# Altium footprint library final.PcbLib: 69 footprints (part 2 of 5)
Each footprint in its own frame and in the unit in brackets; x right, y up, seen from the top. Pads: shape width x height; smd on the part's side, far side on the other; paste and mask are expansions set on the pad; w line width, h text height; cw(c..) or ccw(c..) is an arc to the next point about the centre after c.
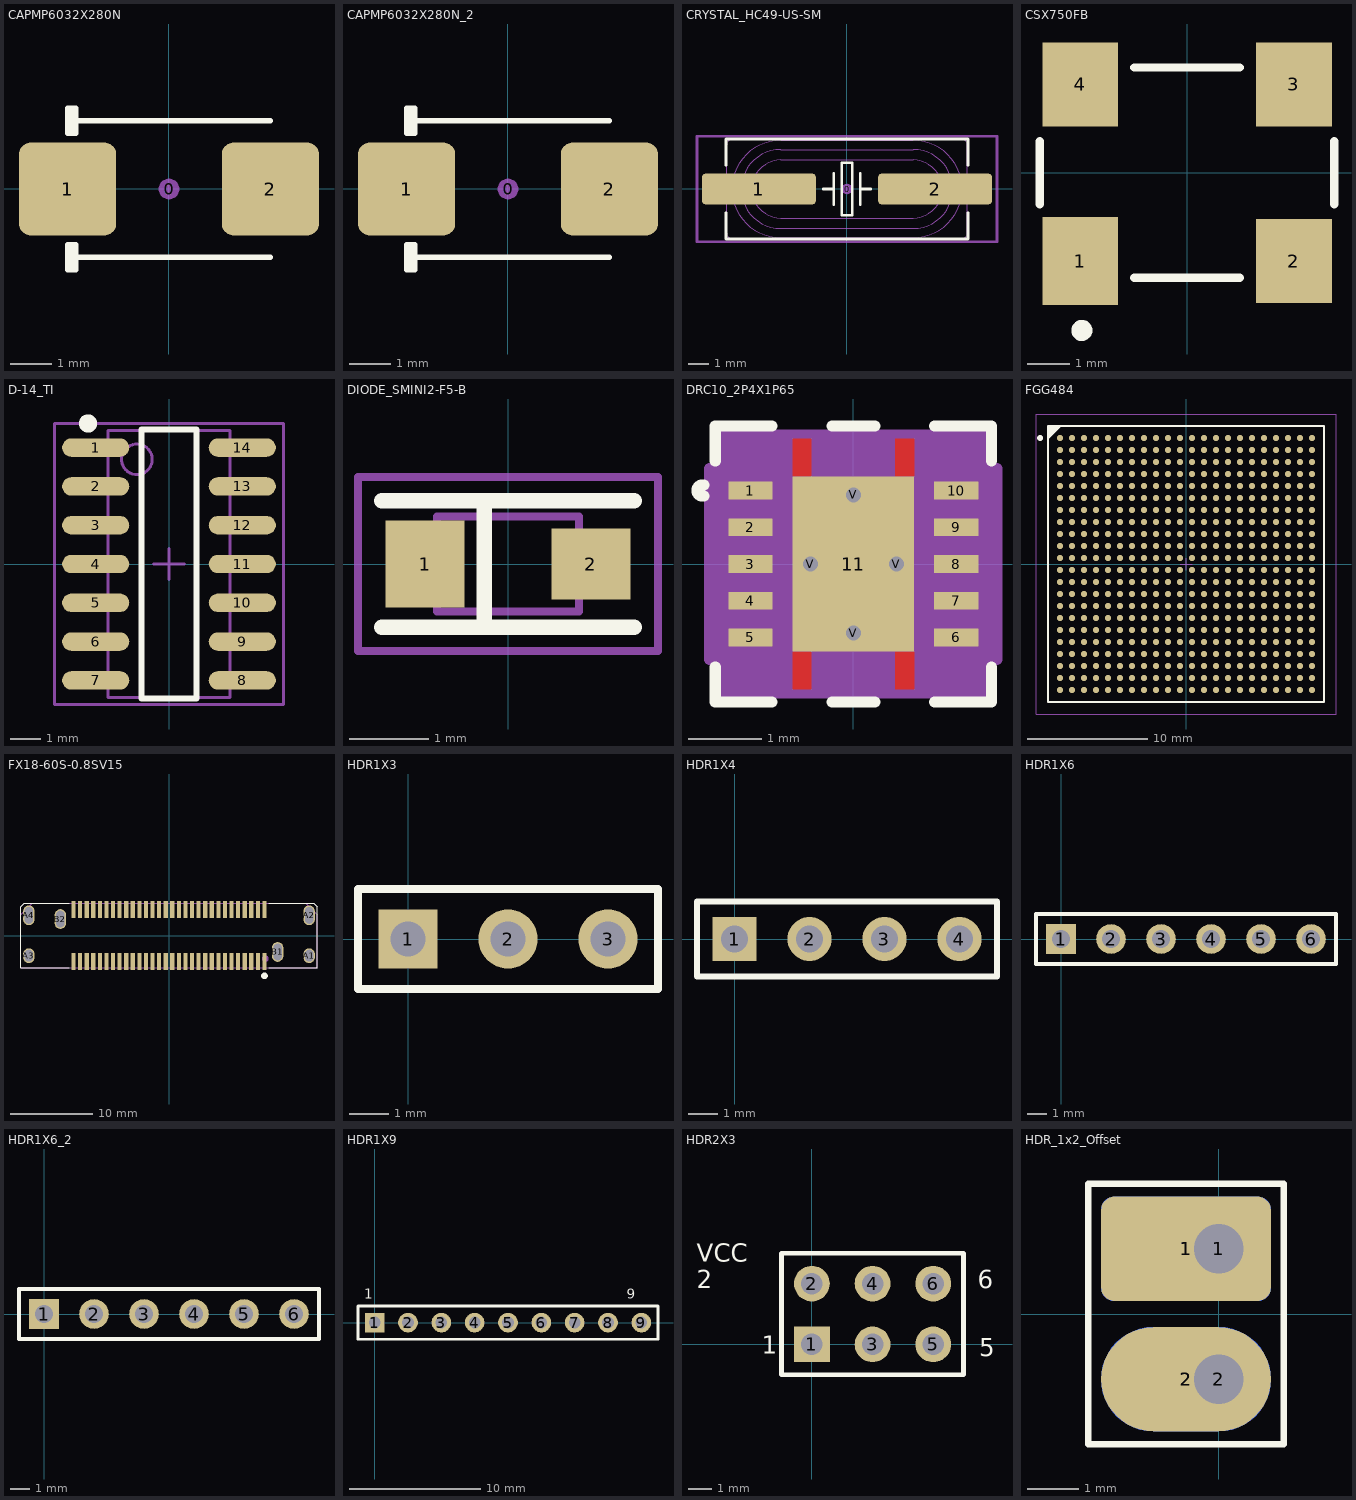
[diagram p1: the footprints below, top view; thin cyan lines are the x and y axes]

## CAPMP6032X280N [mm] "Capacitor, polarized, Molded Body, EIA 535BAAC size C; 6.00mm L X 3.20mm W X 2.80mm H"
height 2.8
pads (3):
  round 0.508 on Mech15 mask+0.05: 0(0,0)
  rrect25% 2.35x2.25 smd mask+0.05: 1(-2.45,0) 2(2.45,0)
Top Overlay:
  lines w0.127: -2.45,-1.65 2.45,-1.65 ; -2.45,1.65 2.45,1.65 ; -2.35,-1.95 -2.35,-1.65 -2.35,-1.35 ; -2.35,1.35 -2.35,1.65 -2.35,1.95 ; -2.45,-1.95 -2.45,-1.35 -2.25,-1.35 -2.25,-1.65 -2.25,-1.95 -2.45,-1.95 ; -2.45,1.35 -2.45,1.95 -2.25,1.95 -2.25,1.65 -2.25,1.35 -2.45,1.35
3D body: height 2.8, standoff 0, extent -3,-1.6 3,1.6

## CAPMP6032X280N_2 [mm]
pads (3):
  round 0.508 on Mech15: 0(0,0)
  rrect25% 2.35x2.25 smd: 1(-2.45,0) 2(2.45,0)
Top Overlay:
  lines w0.127: -2.45,-1.65 2.45,-1.65 ; -2.45,1.65 2.45,1.65 ; -2.35,-1.95 -2.35,-1.65 -2.35,-1.35 ; -2.35,1.35 -2.35,1.65 -2.35,1.95 ; -2.45,-1.95 -2.25,-1.95 -2.25,-1.65 -2.25,-1.35 -2.45,-1.35 -2.45,-1.95 ; -2.45,1.35 -2.25,1.35 -2.25,1.65 -2.25,1.95 -2.45,1.95 -2.45,1.35
3D body: height 2.8, standoff 0, extent -3,-1.6 3,1.6

## CRYSTAL_HC49-US-SM [mm] "SMD Crystal HC49/US-SM package"
height 4.3
pads (3):
  round 0.508 on Mech13: 0(0,0)
  rrect25% 5.5x1.5 smd: 1(-4.25,0) 2(4.25,0)
Top Overlay:
  lines w0.127: -5.842,-1.143 -5.842,-2.413 5.842,-2.413 5.842,-1.143 ; -5.842,1.143 -5.842,2.413 5.842,2.413 5.842,1.143 ; -1.143,0 -0.635,0 ; -0.635,-0.762 -0.635,0.762 ; 0.635,-0.762 0.635,0.762 ; 0.635,0 1.143,0 ; -0.254,-1.27 0.254,-1.27 0.254,1.27 -0.254,1.27 -0.254,-1.27
Mechanical 13:
  lines w0.127: -7.239,-2.54 7.239,-2.54 7.239,2.54 -7.239,2.54 -7.239,-2.54
Mechanical 14:
  lines w0.05: -5.8,-0.45 -6.4,-0.45 -6.4,0.45 -5.8,0.45 ; 5.8,-0.45 6.4,-0.45 6.4,0.45 5.8,0.45 ; -5.8,-2.165 ccw(c-5.55,-2.165) -5.55,-2.415 5.55,-2.415 ccw(c5.55,-2.165) 5.8,-2.165 5.8,2.165 ccw(c5.55,2.165) 5.55,2.415 -5.55,2.415 ccw(c-5.55,2.165) -5.8,2.165 -5.8,-2.165 ; -3.2,-2.35 cw(c-3.2,0) -3.2,2.35 3.2,2.35 cw(c3.2,0) 3.2,-2.35 -3.2,-2.35 ; -3.2,-1.9 cw(c-3.2,0) -3.2,1.9 3.2,1.9 cw(c3.2,0) 3.2,-1.9 -3.2,-1.9 ; -3.2,-1.4 cw(c-3.2,0) -3.2,1.4 3.2,1.4 cw(c3.2,0) 3.2,-1.4 -3.2,-1.4
3D body: height 4.29, standoff -0.01, extent -6.4,-2.415 6.4,2.415

## CSX750FB [mm] "CRYSTAL CLOCK OSCILLATORS; 4 Leads; Body 7 x 5 x 1.6 mm"
height 1.6
pads (4):
  rect 1.8x2.1 smd: 1(-2.54,-2.1)
  rect 1.8x2 smd: 2(2.54,-2.1) 3(2.54,2.1) 4(-2.54,2.1)
Top Overlay:
  circle w0.25: c-2.5,-3.75 r0.125
  lines w0.2: -3.5,-0.75 -3.5,0.75 ; -1.25,-2.5 1.25,-2.5 ; -1.25,2.5 1.25,2.5 ; 3.5,-0.75 3.5,0.75
3D body: height 1.6, standoff 0, extent -3.75,-2.5 3.5,2.5

## D-14_TI [mm]
height 1.75
pads (14):
  oval 2.2x0.6 smd: 1(-2.4,3.81) 2(-2.4,2.54) 3(-2.4,1.27) 4(-2.4,0) 5(-2.4,-1.27) 6(-2.4,-2.54) 7(-2.4,-3.81) 8(2.4,-3.81) 9(2.4,-2.54) 10(2.4,-1.27) 11(2.4,0) 12(2.4,1.27) 13(2.4,2.54) 14(2.4,3.81)
Top Overlay:
  circle w0.3: c-2.65,4.6 r0.15
  lines w0.2: -0.9,-4.4 -0.9,4.4 0.9,4.4 0.9,-4.4 -0.9,-4.4
Mechanical 13:
  circle w0.1: c-1.05,3.425 r0.5
  lines w0.1: -2,-4.375 -2,4.375 2,4.375 2,-4.375 -2,-4.375
Mechanical 15:
  lines w0.1: -0.5,0 0.5,0 ; 0,-0.5 0,0.5 ; -3.75,-4.6 -3.75,4.6 3.75,4.6 3.75,-4.6 -3.75,-4.6
3D body: height 1.55, standoff 0, extent -3,-4.33 3,4.32

## DIODE_SMINI2-F5-B [mm]
pads (2):
  rect 1x1.1 smd: 1(-1.05,0)
  rect 1x0.9 smd: 2(1.05,0)
Top Overlay:
  lines w0.2: -1.6,-0.8 1.6,-0.8 ; -1.6,0.8 1.6,0.8 ; -0.3,-0.8 -0.3,0.8
Mechanical 13:
  lines w0.1: -0.9,-0.6 0.9,-0.6 0.9,0.6 -0.9,0.6 -0.9,-0.6
Mechanical 15:
  lines w0.1: -1.9,-1.1 -1.9,1.1 1.9,1.1 1.9,-1.1 -1.9,-1.1
3D body: height 0.71, standoff 0, extent -1.25,-0.63 1.25,0.62

## DRC10_2P4X1P65 [mm]
pads (15):
  rect 0.6x0.24 smd paste-0.12 mask+0: 1(-1.4,1) 2(-1.4,0.5) 3(-1.4,0) 4(-1.4,-0.5) 5(-1.4,-1) 6(1.4,-1) 7(1.4,-0.5) 8(1.4,0) 9(1.4,0.5) 10(1.4,1)
  rect 1.651x2.388 smd paste-1.181 mask-1.181: 11(0,0)
  round 0.203 hole 0.203: V(-0.584,0) V(0,-0.94) V(0,0.94) V(0.584,0)
Top Layer:
  region: 0,1.194
  region: 0,-1.194
  region: 0.826,1.194 0.572,1.194 0.572,1.702 0.826,1.702
  region: -0.826,1.194 -0.572,1.194 -0.572,1.702 -0.826,1.702
  region: -0.826,-1.194 -0.572,-1.194 -0.572,-1.702 -0.826,-1.702
  region: 0.826,-1.194 0.572,-1.194 0.572,-1.702 0.826,-1.702
Top Overlay:
  lines w0.152: -2.033,0.926 cw(c-2.052,1) -2.033,1.074 ; -1.88,-1.4 -1.88,-1.88 -1.107,-1.88 ; -1.88,1.4 -1.88,1.88 -1.107,1.88 ; -0.29,-1.88 0.29,-1.88 ; -0.29,1.88 0.29,1.88 ; 1.107,-1.88 1.88,-1.88 1.88,-1.4 ; 1.107,1.88 1.88,1.88 1.88,1.4
Top Paste:
  drawing of 26 lines, arcs and shapes, not listed
Top Solder:
  region: -1.1,1.12 -1.7,1.12 -1.7,0.88 -1.1,0.88
  region: -1.1,0.62 -1.7,0.62 -1.7,0.38 -1.1,0.38
  region: -1.1,0.12 -1.7,0.12 -1.7,-0.12 -1.1,-0.12
  region: -1.1,-0.38 -1.7,-0.38 -1.7,-0.62 -1.1,-0.62
  region: -1.1,-0.88 -1.7,-0.88 -1.7,-1.12 -1.1,-1.12
  region: 1.7,-0.88 1.1,-0.88 1.1,-1.12 1.7,-1.12
  region: 1.7,-0.38 1.1,-0.38 1.1,-0.62 1.7,-0.62
  region: 1.7,0.12 1.1,0.12 1.1,-0.12 1.7,-0.12
  region: 1.7,0.62 1.1,0.62 1.1,0.38 1.7,0.38
  region: 1.7,1.12 1.1,1.12 1.1,0.88 1.7,0.88
  region: -0.889,0.987 -0.889,1.257 0.889,1.257 0.889,0.987
  region: -0.889,0.2 -0.889,0.587 0.889,0.587 0.889,0.2
  region: -0.889,-0.587 -0.889,-0.2 0.889,-0.2 0.889,-0.587
  region: -0.889,-1.257 -0.889,-0.987 0.889,-0.987 0.889,-1.257
  region: -0.889,-1.257 -0.889,1.257 -0.594,1.257 -0.594,-1.257
  region: 0.194,-1.257 0.194,1.257 -0.194,1.257 -0.194,-1.257
  region: 0.594,-1.257 0.594,1.257 0.889,1.257 0.889,-1.257
  region: 0,1.194
  region: 0,-1.194
  region: 0.826,1.194 0.572,1.194 0.572,1.702 0.826,1.702
  region: -0.826,1.194 -0.572,1.194 -0.572,1.702 -0.826,1.702
  region: -0.826,-1.194 -0.572,-1.194 -0.572,-1.702 -0.826,-1.702
  region: 0.826,-1.194 0.572,-1.194 0.572,-1.702 0.826,-1.702
Mechanical 13:
  circle w0: c-1.1,1 r0.076
  lines w0: -0.305,1.499 ccw(c0,1.499) 0.305,1.499
  lines w0.025: -1.499,-1.499 1.499,-1.499 1.499,1.499 -1.499,1.499 -1.499,-1.499
Mechanical 15:
  region: -1.753,-1.301 -1.954,-1.301 -1.954,1.301 -1.753,1.301 -1.753,1.753 1.753,1.753 1.753,1.301 1.954,1.301 1.954,-1.301 1.753,-1.301 1.753,-1.753 -1.753,-1.753
  lines w0.152: -1.954,-1.301 -1.954,1.301 -1.753,1.301 -1.753,1.753 1.753,1.753 1.753,1.301 1.954,1.301 1.954,-1.301 1.753,-1.301 1.753,-1.753 -1.753,-1.753 -1.753,-1.301 -1.954,-1.301
3D body: height 0.25, standoff 0, extent 0,0 0.254,0.254

## FGG484 [mm] "484-Ball Fine Pitch Ball Grid Array 1.00 mm Pitch (FGG484) - Pb-Free"
height 2.6
pads (484):
  round 0.5 smd: A1(-10.5,10.5) A2(-9.5,10.5) A3(-8.5,10.5) A4(-7.5,10.5) A5(-6.5,10.5) A6(-5.5,10.5) A7(-4.5,10.5) A8(-3.5,10.5) A9(-2.5,10.5) A10(-1.5,10.5) A11(-0.5,10.5) A12(0.5,10.5) A13(1.5,10.5) A14(2.5,10.5) A15(3.5,10.5) A16(4.5,10.5) A17(5.5,10.5) A18(6.5,10.5) A19(7.5,10.5) A20(8.5,10.5) A21(9.5,10.5) A22(10.5,10.5) AA1(-10.5,-9.5) AA2(-9.5,-9.5) AA3(-8.5,-9.5) AA4(-7.5,-9.5) AA5(-6.5,-9.5) AA6(-5.5,-9.5) AA7(-4.5,-9.5) AA8(-3.5,-9.5) AA9(-2.5,-9.5) AA10(-1.5,-9.5) AA11(-0.5,-9.5) AA12(0.5,-9.5) AA13(1.5,-9.5) AA14(2.5,-9.5) AA15(3.5,-9.5) AA16(4.5,-9.5) AA17(5.5,-9.5) AA18(6.5,-9.5) AA19(7.5,-9.5) AA20(8.5,-9.5) AA21(9.5,-9.5) AA22(10.5,-9.5) AB1(-10.5,-10.5) AB2(-9.5,-10.5) AB3(-8.5,-10.5) AB4(-7.5,-10.5) AB5(-6.5,-10.5) AB6(-5.5,-10.5) AB7(-4.5,-10.5) AB8(-3.5,-10.5) AB9(-2.5,-10.5) AB10(-1.5,-10.5) AB11(-0.5,-10.5) AB12(0.5,-10.5) AB13(1.5,-10.5) AB14(2.5,-10.5) AB15(3.5,-10.5) AB16(4.5,-10.5) AB17(5.5,-10.5) AB18(6.5,-10.5) AB19(7.5,-10.5) AB20(8.5,-10.5) AB21(9.5,-10.5) AB22(10.5,-10.5) B1(-10.5,9.5) B2(-9.5,9.5) B3(-8.5,9.5) B4(-7.5,9.5) B5(-6.5,9.5) B6(-5.5,9.5) B7(-4.5,9.5) B8(-3.5,9.5) B9(-2.5,9.5) B10(-1.5,9.5) B11(-0.5,9.5) B12(0.5,9.5) B13(1.5,9.5) B14(2.5,9.5) B15(3.5,9.5) B16(4.5,9.5) B17(5.5,9.5) B18(6.5,9.5) B19(7.5,9.5) B20(8.5,9.5) B21(9.5,9.5) B22(10.5,9.5) C1(-10.5,8.5) C2(-9.5,8.5) C3(-8.5,8.5) C4(-7.5,8.5) C5(-6.5,8.5) C6(-5.5,8.5) C7(-4.5,8.5) C8(-3.5,8.5) C9(-2.5,8.5) C10(-1.5,8.5) C11(-0.5,8.5) C12(0.5,8.5) C13(1.5,8.5) C14(2.5,8.5) C15(3.5,8.5) C16(4.5,8.5) C17(5.5,8.5) C18(6.5,8.5) C19(7.5,8.5) C20(8.5,8.5) C21(9.5,8.5) C22(10.5,8.5) D1(-10.5,7.5) D2(-9.5,7.5) D3(-8.5,7.5) D4(-7.5,7.5) D5(-6.5,7.5) D6(-5.5,7.5) D7(-4.5,7.5) D8(-3.5,7.5) D9(-2.5,7.5) D10(-1.5,7.5) D11(-0.5,7.5) D12(0.5,7.5) D13(1.5,7.5) D14(2.5,7.5) D15(3.5,7.5) D16(4.5,7.5) D17(5.5,7.5) D18(6.5,7.5) D19(7.5,7.5) D20(8.5,7.5) D21(9.5,7.5) D22(10.5,7.5) E1(-10.5,6.5) E2(-9.5,6.5) E3(-8.5,6.5) E4(-7.5,6.5) E5(-6.5,6.5) E6(-5.5,6.5) E7(-4.5,6.5) E8(-3.5,6.5) E9(-2.5,6.5) E10(-1.5,6.5) E11(-0.5,6.5) E12(0.5,6.5) E13(1.5,6.5) E14(2.5,6.5) E15(3.5,6.5) E16(4.5,6.5) E17(5.5,6.5) E18(6.5,6.5) E19(7.5,6.5) E20(8.5,6.5) E21(9.5,6.5) E22(10.5,6.5) F1(-10.5,5.5) F2(-9.5,5.5) F3(-8.5,5.5) F4(-7.5,5.5) F5(-6.5,5.5) F6(-5.5,5.5) F7(-4.5,5.5) F8(-3.5,5.5) F9(-2.5,5.5) F10(-1.5,5.5) F11(-0.5,5.5) F12(0.5,5.5) F13(1.5,5.5) F14(2.5,5.5) F15(3.5,5.5) F16(4.5,5.5) F17(5.5,5.5) F18(6.5,5.5) F19(7.5,5.5) F20(8.5,5.5) F21(9.5,5.5) F22(10.5,5.5) G1(-10.5,4.5) G2(-9.5,4.5) G3(-8.5,4.5) G4(-7.5,4.5) G5(-6.5,4.5) G6(-5.5,4.5) G7(-4.5,4.5) G8(-3.5,4.5) G9(-2.5,4.5) G10(-1.5,4.5) G11(-0.5,4.5) G12(0.5,4.5) G13(1.5,4.5) G14(2.5,4.5) G15(3.5,4.5) G16(4.5,4.5) G17(5.5,4.5) G18(6.5,4.5) G19(7.5,4.5) G20(8.5,4.5) G21(9.5,4.5) G22(10.5,4.5) H1(-10.5,3.5) H2(-9.5,3.5) H3(-8.5,3.5) H4(-7.5,3.5) H5(-6.5,3.5) H6(-5.5,3.5) H7(-4.5,3.5) H8(-3.5,3.5) H9(-2.5,3.5) H10(-1.5,3.5) H11(-0.5,3.5) H12(0.5,3.5) H13(1.5,3.5) H14(2.5,3.5) H15(3.5,3.5) H16(4.5,3.5) H17(5.5,3.5) H18(6.5,3.5) H19(7.5,3.5) H20(8.5,3.5) H21(9.5,3.5) H22(10.5,3.5) J1(-10.5,2.5) J2(-9.5,2.5) J3(-8.5,2.5) J4(-7.5,2.5) J5(-6.5,2.5) J6(-5.5,2.5) J7(-4.5,2.5) J8(-3.5,2.5) J9(-2.5,2.5) J10(-1.5,2.5) J11(-0.5,2.5) J12(0.5,2.5) J13(1.5,2.5) J14(2.5,2.5) J15(3.5,2.5) J16(4.5,2.5) J17(5.5,2.5) J18(6.5,2.5) J19(7.5,2.5) J20(8.5,2.5) J21(9.5,2.5) J22(10.5,2.5) K1(-10.5,1.5) K2(-9.5,1.5) K3(-8.5,1.5) K4(-7.5,1.5) K5(-6.5,1.5) K6(-5.5,1.5) K7(-4.5,1.5) K8(-3.5,1.5) K9(-2.5,1.5) K10(-1.5,1.5) K11(-0.5,1.5) K12(0.5,1.5) K13(1.5,1.5) K14(2.5,1.5) K15(3.5,1.5) K16(4.5,1.5) K17(5.5,1.5) K18(6.5,1.5) K19(7.5,1.5) K20(8.5,1.5) K21(9.5,1.5) K22(10.5,1.5) L1(-10.5,0.5) L2(-9.5,0.5) L3(-8.5,0.5) L4(-7.5,0.5) L5(-6.5,0.5) L6(-5.5,0.5) L7(-4.5,0.5) L8(-3.5,0.5) L9(-2.5,0.5) L10(-1.5,0.5) L11(-0.5,0.5) L12(0.5,0.5) L13(1.5,0.5) L14(2.5,0.5) L15(3.5,0.5) L16(4.5,0.5) L17(5.5,0.5) L18(6.5,0.5) L19(7.5,0.5) L20(8.5,0.5) L21(9.5,0.5) L22(10.5,0.5) M1(-10.5,-0.5) M2(-9.5,-0.5) M3(-8.5,-0.5) M4(-7.5,-0.5) M5(-6.5,-0.5) M6(-5.5,-0.5) M7(-4.5,-0.5) M8(-3.5,-0.5) M9(-2.5,-0.5) M10(-1.5,-0.5) M11(-0.5,-0.5) M12(0.5,-0.5) M13(1.5,-0.5) M14(2.5,-0.5) M15(3.5,-0.5) M16(4.5,-0.5) M17(5.5,-0.5) M18(6.5,-0.5) M19(7.5,-0.5) M20(8.5,-0.5) M21(9.5,-0.5) M22(10.5,-0.5) N1(-10.5,-1.5) N2(-9.5,-1.5) N3(-8.5,-1.5) N4(-7.5,-1.5) N5(-6.5,-1.5) N6(-5.5,-1.5) N7(-4.5,-1.5) N8(-3.5,-1.5) N9(-2.5,-1.5) N10(-1.5,-1.5) N11(-0.5,-1.5) N12(0.5,-1.5) N13(1.5,-1.5) N14(2.5,-1.5) N15(3.5,-1.5) N16(4.5,-1.5) N17(5.5,-1.5) N18(6.5,-1.5) N19(7.5,-1.5) N20(8.5,-1.5) N21(9.5,-1.5) N22(10.5,-1.5) P1(-10.5,-2.5) P2(-9.5,-2.5) P3(-8.5,-2.5) P4(-7.5,-2.5) P5(-6.5,-2.5) P6(-5.5,-2.5) P7(-4.5,-2.5) P8(-3.5,-2.5) P9(-2.5,-2.5) P10(-1.5,-2.5) P11(-0.5,-2.5) P12(0.5,-2.5) P13(1.5,-2.5) P14(2.5,-2.5) P15(3.5,-2.5) P16(4.5,-2.5) P17(5.5,-2.5) P18(6.5,-2.5) P19(7.5,-2.5) P20(8.5,-2.5) P21(9.5,-2.5) P22(10.5,-2.5) R1(-10.5,-3.5) R2(-9.5,-3.5) R3(-8.5,-3.5) R4(-7.5,-3.5) R5(-6.5,-3.5) R6(-5.5,-3.5) R7(-4.5,-3.5) R8(-3.5,-3.5) R9(-2.5,-3.5) R10(-1.5,-3.5) R11(-0.5,-3.5) R12(0.5,-3.5) R13(1.5,-3.5) R14(2.5,-3.5) R15(3.5,-3.5) R16(4.5,-3.5) R17(5.5,-3.5) R18(6.5,-3.5) R19(7.5,-3.5) R20(8.5,-3.5) R21(9.5,-3.5) R22(10.5,-3.5) T1(-10.5,-4.5) T2(-9.5,-4.5) T3(-8.5,-4.5) T4(-7.5,-4.5) T5(-6.5,-4.5) T6(-5.5,-4.5) T7(-4.5,-4.5) T8(-3.5,-4.5) T9(-2.5,-4.5) T10(-1.5,-4.5) T11(-0.5,-4.5) T12(0.5,-4.5) T13(1.5,-4.5) T14(2.5,-4.5) T15(3.5,-4.5) T16(4.5,-4.5) T17(5.5,-4.5) T18(6.5,-4.5) T19(7.5,-4.5) T20(8.5,-4.5) T21(9.5,-4.5) T22(10.5,-4.5) U1(-10.5,-5.5) U2(-9.5,-5.5) U3(-8.5,-5.5) U4(-7.5,-5.5) U5(-6.5,-5.5) U6(-5.5,-5.5) U7(-4.5,-5.5) U8(-3.5,-5.5) U9(-2.5,-5.5) U10(-1.5,-5.5) U11(-0.5,-5.5) U12(0.5,-5.5) U13(1.5,-5.5) U14(2.5,-5.5) U15(3.5,-5.5) U16(4.5,-5.5) U17(5.5,-5.5) U18(6.5,-5.5) U19(7.5,-5.5) U20(8.5,-5.5) U21(9.5,-5.5) U22(10.5,-5.5) V1(-10.5,-6.5) V2(-9.5,-6.5) V3(-8.5,-6.5) V4(-7.5,-6.5) V5(-6.5,-6.5) V6(-5.5,-6.5) V7(-4.5,-6.5) V8(-3.5,-6.5) V9(-2.5,-6.5) V10(-1.5,-6.5) V11(-0.5,-6.5) V12(0.5,-6.5) V13(1.5,-6.5) V14(2.5,-6.5) V15(3.5,-6.5) V16(4.5,-6.5) V17(5.5,-6.5) V18(6.5,-6.5) V19(7.5,-6.5) V20(8.5,-6.5) V21(9.5,-6.5) V22(10.5,-6.5) W1(-10.5,-7.5) W2(-9.5,-7.5) W3(-8.5,-7.5) W4(-7.5,-7.5) W5(-6.5,-7.5) W6(-5.5,-7.5) W7(-4.5,-7.5) W8(-3.5,-7.5) W9(-2.5,-7.5) W10(-1.5,-7.5) W11(-0.5,-7.5) W12(0.5,-7.5) W13(1.5,-7.5) W14(2.5,-7.5) W15(3.5,-7.5) W16(4.5,-7.5) W17(5.5,-7.5) W18(6.5,-7.5) W19(7.5,-7.5) W20(8.5,-7.5) W21(9.5,-7.5) W22(10.5,-7.5) Y1(-10.5,-8.5) Y2(-9.5,-8.5) Y3(-8.5,-8.5) Y4(-7.5,-8.5) Y5(-6.5,-8.5) Y6(-5.5,-8.5) Y7(-4.5,-8.5) Y8(-3.5,-8.5) Y9(-2.5,-8.5) Y10(-1.5,-8.5) Y11(-0.5,-8.5) Y12(0.5,-8.5) Y13(1.5,-8.5) Y14(2.5,-8.5) Y15(3.5,-8.5) Y16(4.5,-8.5) Y17(5.5,-8.5) Y18(6.5,-8.5) Y19(7.5,-8.5) Y20(8.5,-8.5) Y21(9.5,-8.5) Y22(10.5,-8.5)
Top Overlay:
  circle w0.25: c-12.15,10.5 r0.125
  region: -10.5,11.5 -11.5,10.5 -11.5,11.5
  lines w0.2: -11.5,10.5 -10.5,11.5 ; -11.5,-11.5 11.5,-11.5 11.5,11.5 -11.5,11.5 -11.5,-11.5
Mechanical 13:
  lines w0.1: -11.5,-11.5 11.5,-11.5 11.5,11.5 -11.5,11.5 -11.5,-11.5
Mechanical 15:
  lines w0.1: -0.5,0 0.5,0 ; 0,-0.5 0,0.5 ; -12.5,-12.5 12.5,-12.5 12.5,12.5 -12.5,12.5 -12.5,-12.5
3D body: height 2.6, standoff 0, extent -11.5,-11.5 11.5,11.5

## FX18-60S-0.8SV15 [mm]
pads (66):
  rect 0.5x2.1 smd mask+0.075: 1(11.6,-3.15) 2(10.8,-3.15) 3(10,-3.15) 4(9.2,-3.15) 5(8.4,-3.15) 6(7.6,-3.15) 7(6.8,-3.15) 8(6,-3.15) 9(5.2,-3.15) 10(4.4,-3.15) 11(3.6,-3.15) 12(2.8,-3.15) 13(2,-3.15) 14(1.2,-3.15) 15(0.4,-3.15) 16(-0.4,-3.15) 17(-1.2,-3.15) 18(-2,-3.15) 19(-2.8,-3.15) 20(-3.6,-3.15) 21(-4.4,-3.15) 22(-5.2,-3.15) 23(-6,-3.15) 24(-6.8,-3.15) 25(-7.6,-3.15) 26(-8.4,-3.15) 27(-9.2,-3.15) 28(-10,-3.15) 29(-10.8,-3.15) 30(-11.6,-3.15) 31(11.6,3.15) 32(10.8,3.15) 33(10,3.15) 34(9.2,3.15) 35(8.4,3.15) 36(7.6,3.15) 37(6.8,3.15) 38(6,3.15) 39(5.2,3.15) 40(4.4,3.15) 41(3.6,3.15) 42(2.8,3.15) 43(2,3.15) 44(1.2,3.15) 45(0.4,3.15) 46(-0.4,3.15) 47(-1.2,3.15) 48(-2,3.15) 49(-2.8,3.15) 50(-3.6,3.15) 51(-4.4,3.15) 52(-5.2,3.15) 53(-6,3.15) 54(-6.8,3.15) 55(-7.6,3.15) 56(-8.4,3.15) 57(-9.2,3.15) 58(-10,3.15) 59(-10.8,3.15) 60(-11.6,3.15)
  oval 1.4x1.8 hole 1 slot 1.4 at 90 deg: A1(17.025,-2.45) A3(-17.025,-2.45)
  oval 1.4x2.4 hole 1 slot 2 at 90 deg: A2(17.025,2.45) A4(-17.025,2.45) B1(13.2,-2) B2(-13.2,2)
Top Overlay:
  circle w0.5: c11.6,-4.9 r0.15
  lines w0.15: -12.1,-3.9 -18,-3.9 -18,3.5 -17.6,3.9 -12.1,3.9 ; 12.1,-3.9 18,-3.9 18,3.5 17.6,3.9 12.1,3.9
Mechanical 13:
  circle w0.5: c11.7,-2.8 r0.15
  lines w0.15: -18,-3.9 -12.1,-3.9 18,-3.9 18,2.5 16.6,3.9 12.1,3.9 -16.6,3.9 -18,2.5 -18,-3.9
  text ".Designator" at -5.54,-0.575 h1.5
3D body: height 11.83, standoff -1.27, extent -17.95,-3.9 17.95,3.9

## HDR1X3 [mm] "Connector; Header; 3 Position"
height 1.75
pads (3):
  rect 1.5x1.5 hole 0.9: 1(0,0)
  round 1.5 hole 0.9: 2(2.54,0) 3(5.08,0)
Top Overlay:
  lines w0.2: -1.27,-1.27 -1.27,1.27 6.35,1.27 6.35,-1.27 -1.27,-1.27

## HDR1X4 [mm] "Connector; Header; 4 Position"
pads (4):
  rect 1.5x1.5 hole 0.9: 1(0,0)
  round 1.5 hole 0.9: 2(2.54,0) 3(5.08,0) 4(7.62,0)
Top Overlay:
  lines w0.2: -1.27,-1.27 8.89,-1.27 8.89,1.27 -1.27,1.27 -1.27,-1.27

## HDR1X6 [mm] "Connector; Header; 6 Position"
pads (6):
  rect 1.5x1.5 hole 0.9: 1(0,0)
  round 1.5 hole 0.9: 2(2.54,0) 3(5.08,0) 4(7.62,0) 5(10.16,0) 6(12.7,0)
Top Overlay:
  lines w0.2: -1.27,-1.27 -1.27,1.27 13.97,1.27 13.97,-1.27 -1.27,-1.27

## HDR1X6_2 [mm]
pads (6):
  rect 1.5x1.5 hole 0.9: 1(0,0)
  round 1.5 hole 0.9: 2(2.54,0) 3(5.08,0) 4(7.62,0) 5(10.16,0) 6(12.7,0)
Top Overlay:
  lines w0.2: -1.27,-1.27 13.97,-1.27 13.97,1.27 -1.27,1.27 -1.27,-1.27

## HDR1X9 [mm] "Connector; Header; 9 Position"
pads (9):
  rect 1.5x1.5 hole 0.9: 1(0,0)
  round 1.5 hole 0.9: 2(2.54,0) 3(5.08,0) 4(7.62,0) 5(10.16,0) 6(12.7,0) 7(15.24,0) 8(17.78,0) 9(20.32,0)
Top Overlay:
  lines w0.2: -1.27,-1.27 21.59,-1.27 21.59,1.27 -1.27,1.27 -1.27,-1.27
  text "9" at 19.19,1.838 h0.75
  text "1" at -0.81,1.838 h0.75

## HDR2X3 [mm] "Connector; Header; 3x2 Position"
pads (6):
  rect 1.5x1.5 hole 0.9: 1(0,0)
  round 1.5 hole 0.9: 2(0,2.54) 3(2.54,0) 4(2.54,2.54) 5(5.08,0) 6(5.08,2.54)
Top Overlay:
  lines w0.2: 1.482,-1.27 6.35,-1.27 ; 6.35,-1.27 6.35,3.81 -1.27,3.81 -1.27,-1.27 6.35,-1.27
  text "1" at -2.1,-0.4 h0.75
  text "VCC / 2" at -4.81,2.338 h0.75
  text "5" at 7,-0.5 h0.75
  text "6" at 6.94,2.338 h0.75

## HDR_1x2_Offset [mil]
height 39.37
pads (6):
  rrect25% 130x80 smd mask+1.97: 1(-25,50)
  rrect25% 130x80 smd far side mask+1.97: 1(-25,50)
  rrect25% 60x60 hole 38 mask+1.97: 1(0,50)
  oval 130x80 smd mask+1.97: 2(-25,-50)
  oval 130x80 smd far side mask+1.97: 2(-25,-50)
  round 60 hole 38 mask+1.97: 2(0,-50)
Top Overlay:
  lines w5: -100,-100 -100,100 50,100 50,-100 -100,-100